# Altium footprint library DK2.PcbLib: 64 footprints (part 4 of 4)
Each footprint in its own frame and in the unit in brackets; x right, y up, seen from the top. Pads: shape width x height; smd on the part's side, far side on the other; paste and mask are expansions set on the pad; w line width, h text height; cw(c..) or ccw(c..) is an arc to the next point about the centre after c.
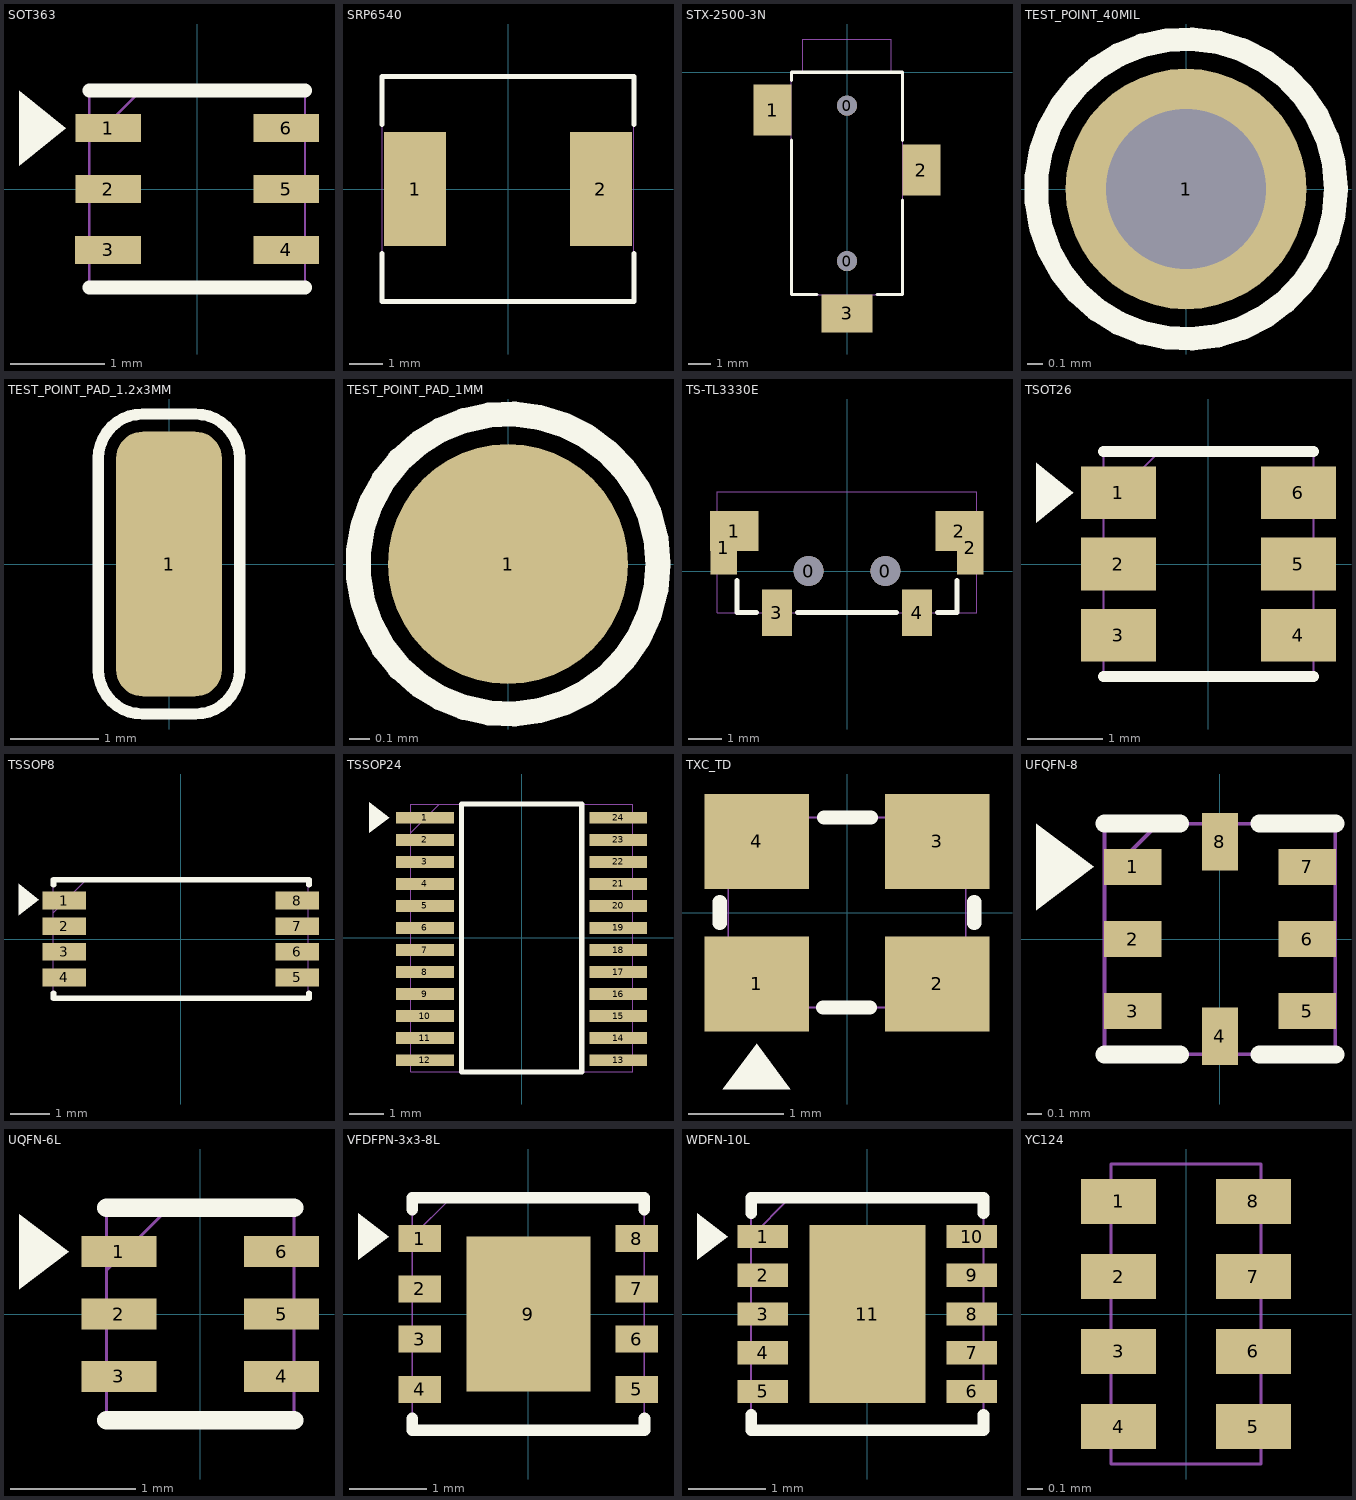
[diagram p3: the footprints below, top view; thin cyan lines are the x and y axes]

## SOT363 [mm]
pads (6):
  rect 0.7x0.3 smd mask+0.051: 1(-0.95,0.65) 2(-0.95,0) 3(-0.95,-0.65) 4(0.95,-0.65) 5(0.95,0) 6(0.95,0.65)
Top Overlay:
  region: -1.4,0.65 -1.9,0.25 -1.9,1.05
  lines w0.15: -1.15,-1.05 1.15,-1.05 ; -1.15,1.05 1.15,1.05
Mechanical 1:
  lines w0.025: -1.15,0.5 -0.6,1.05 ; -1.15,-1.05 -1.15,1.05 1.15,1.05 1.15,-1.05 -1.15,-1.05
3D body: height 1, standoff 0, extent -1.15,-1.05 1.15,1.05

## SRP6540 [mil]
pads (2):
  rect 73x134 smd mask+4: 1(-109,0) 2(109,0)
Top Overlay:
  lines w5.91: -147.64,-75.79 -147.64,-131.89 147.64,-131.89 147.64,-75.79 ; -147.64,75.79 -147.64,131.89 147.64,131.89 147.64,75.79
Mechanical 1:
  lines w1: -147.64,-131.89 147.64,-131.89 147.64,131.89 -147.64,131.89 -147.64,-131.89
3D body: height 157, standoff 0, extent -147.63,-132.38 147.64,132.39

## STX-2500-3N [mm]
pads (5):
  round 0.9 hole 0.9 unplated paste+0 mask+0.051: 0(0,-8.5) 0(0,-1.5)
  rect 1.7x2.3 smd paste+0 mask+0.051: 1(-3.35,-1.7) 2(3.35,-4.4)
  rect 2.3x1.7 smd paste+0 mask+0.051: 3(0,-10.85)
Top Overlay:
  lines w0.15: -2.5,-3.05 -2.5,-10 -1.35,-10 ; -2.5,-0.35 -2.5,0 2.5,0 2.5,-3.05 ; 1.35,-10 2.5,-10 2.5,-5.75
Mechanical 1:
  lines w0.05: -2.5,-10 2.5,-10 2.5,0 -2.5,0 -2.5,-10 ; -2,0 -2,1.5 2,1.5 2,0 -2,0
3D body: height 4, standoff 0, extent -2.5,-10 2.5,0
3D body: height 4, standoff 0, extent -1.992,0 1.992,1.5

## TEST_POINT_40MIL [mil]
pads (1):
  round 60 hole 40 mask+2.5: 1(0,0)
Top Overlay:
  circle w5.91: c0,0 r37.4

## TEST_POINT_PAD_1.2x3MM [mm]
pads (1):
  rrect50% 1.2x3 smd paste-1 mask+0.051: 1(0,0)
Top Overlay:
  lines w0.13: -0.8,-1.2 ccw(c-0.3,-1.2) -0.3,-1.7 0.3,-1.7 ccw(c0.3,-1.2) 0.8,-1.2 0.8,1.2 ccw(c0.3,1.2) 0.3,1.7 -0.3,1.7 ccw(c-0.3,1.2) -0.8,1.2 -0.8,-1.2

## TEST_POINT_PAD_1MM [mm]
pads (1):
  round 1.2 smd paste-1 mask+0.051: 1(0,0)
Top Overlay:
  circle w0.125: c0,0 r0.75

## TS-TL3330E [mm]
pads (8):
  round 0.9 hole 0.9 unplated mask+0.051: 0(-1.15,0) 0(1.15,0)
  rect 0.8x1.6 smd mask+0.051: 1(-3.7,0.7) 2(3.7,0.7)
  rect 1.45x1.2 smd mask+0.051: 1(-3.38,1.2) 2(3.375,1.2)
  rect 0.9x1.4 smd mask+0.051: 3(-2.1,-1.25) 4(2.1,-1.25)
Top Overlay:
  lines w0.15: -3.3,-0.28 -3.3,-1.25 -2.72,-1.25 ; -1.48,-1.25 1.49,-1.25 ; 2.71,-1.25 3.3,-1.25 3.3,-0.28
Mechanical 1:
  lines w0.02: -3.9,-1.25 -3.9,2.37 3.9,2.37 3.9,-1.25 -3.9,-1.25
3D body: height 3.47, standoff -0.03, extent -3.9,-1.25 3.9,2.372

## TSOT26 [mm]
pads (6):
  rect 1x0.7 smd mask+0.051: 1(-1.2,0.95) 2(-1.2,0) 3(-1.2,-0.95) 4(1.2,-0.95) 5(1.2,0) 6(1.2,0.95)
Top Overlay:
  region: -1.8,0.95 -2.3,0.55 -2.3,1.35
  lines w0.15: -1.4,-1.5 1.4,-1.5 ; -1.4,1.5 1.4,1.5
Mechanical 1:
  lines w0.02: -1.4,0.75 -0.7,1.45
  lines w0.025: -1.4,-1.45 1.4,-1.45 1.4,1.45 -1.4,1.45 -1.4,-1.45
3D body: height 1.45, standoff 0, extent -1.4,-1.45 1.4,1.45

## TSSOP8 [mm]
pads (8):
  rect 1.1x0.45 smd mask+0.064: 1(-2.95,0.975) 2(-2.95,0.325) 3(-2.95,-0.325) 4(-2.95,-0.975) 5(2.95,-0.975) 6(2.95,-0.325) 7(2.95,0.325) 8(2.95,0.975)
Top Overlay:
  region: -3.6,1 -4.1,0.6 -4.1,1.4
  lines w0.15: -3.225,-1.375 -3.225,-1.5 3.25,-1.5 3.25,-1.375 ; -3.225,1.375 -3.225,1.5 3.25,1.5 3.25,1.375
Mechanical 1:
  lines w0.025: -3.229,0.661 -2.39,1.5 ; -3.23,-1.5 -3.23,1.5 3.23,1.5 3.23,-1.5 -3.23,-1.5
3D body: height 1.2, standoff 0, extent -3.228,-1.5 3.228,1.5

## TSSOP24 [mm]
pads (24):
  rect 1.7x0.35 smd paste-0.025 mask+0.076: 1(-2.85,3.545) 2(-2.85,2.895) 3(-2.85,2.245) 4(-2.85,1.595) 5(-2.85,0.945) 6(-2.85,0.295) 7(-2.85,-0.355) 8(-2.85,-1.005) 9(-2.85,-1.655) 10(-2.85,-2.305) 11(-2.85,-2.955) 12(-2.85,-3.605) 13(2.85,-3.605) 14(2.85,-2.955) 15(2.85,-2.305) 16(2.85,-1.655) 17(2.85,-1.005) 18(2.85,-0.355) 19(2.85,0.295) 20(2.85,0.945) 21(2.85,1.595) 22(2.85,2.245) 23(2.85,2.895) 24(2.85,3.545)
Top Overlay:
  region: -3.9,3.55 -4.5,4 -4.5,3.1
  lines w0.15: -1.775,-3.95 1.775,-3.95 1.775,3.95 -1.775,3.95 -1.775,-3.95
Mechanical 1:
  lines w0.025: -3.275,3.1 -2.425,3.95 ; -3.275,-3.95 3.275,-3.95 3.275,3.95 -3.275,3.95 -3.275,-3.95
3D body: height 1.2, standoff 0, extent -3.275,-3.95 3.275,3.95

## TXC_TD [mm]
pads (4):
  rect 1.1x1 smd mask+0.051: 1(-0.95,-0.75) 2(0.95,-0.75) 3(0.95,0.75) 4(-0.95,0.75)
Top Overlay:
  region: -0.952,-1.382 -0.596,-1.857 -1.308,-1.857
  lines w0.15: -1.34,-0.11 -1.34,0.11 ; -0.25,-1 0.24,-1 ; -0.24,1 0.25,1 ; 1.34,-0.11 1.34,0.11
Mechanical 1:
  lines w0.02: -1.25,-1 1.25,-1 1.25,1 -1.25,1 -1.25,-1
3D body: height 0.75, standoff 0, extent -1.25,-1 1.25,1

## UFQFN-8 [mm]
pads (8):
  rect 0.4x0.25 smd mask+0.05: 1(-0.605,0.5) 2(-0.605,0) 3(-0.605,-0.5) 5(0.605,-0.5) 6(0.605,0) 7(0.605,0.5)
  rect 0.25x0.4 smd mask+0.05: 4(0,-0.675) 8(0,0.675)
Top Overlay:
  region: -0.875,0.5 -1.275,0.2 -1.275,0.8
  lines w0.125: -0.8,-0.8 -0.275,-0.8 ; -0.8,0.8 -0.275,0.8 ; 0.275,-0.8 0.8,-0.8 ; 0.275,0.8 0.8,0.8
Mechanical 1:
  lines w0.025: -0.8,0.425 -0.425,0.8 ; -0.8,-0.8 0.8,-0.8 0.8,0.8 -0.8,0.8 -0.8,-0.8
3D body: height 0.55, standoff 0, extent -0.8,-0.8 0.8,0.8

## UQFN-6L [mm]
pads (6):
  rect 0.6x0.25 smd paste-0.3 mask+0.051: 1(-0.65,0.5) 2(-0.65,0) 3(-0.65,-0.5) 4(0.65,-0.5) 5(0.65,0) 6(0.65,0.5)
Top Overlay:
  region: -1.05,0.5 -1.45,0.2 -1.45,0.8
  lines w0.15: -0.75,-0.85 0.75,-0.85 ; -0.75,0.85 0.75,0.85
Top Paste:
  rectangle: 0.365,0.382 0.935,0.618
  rectangle: 0.365,-0.118 0.935,0.118
  rectangle: 0.365,-0.618 0.935,-0.382
  rectangle: -0.935,-0.618 -0.365,-0.382
  rectangle: -0.935,-0.118 -0.365,0.118
  rectangle: -0.935,0.382 -0.365,0.618
Mechanical 1:
  lines w0.025: -0.75,0.35 -0.25,0.85 ; -0.75,-0.85 -0.75,0.85 0.75,0.85 0.75,-0.85 -0.75,-0.85
3D body: height 0.5, standoff 0, extent -0.75,-0.85 0.75,0.85

## VFDFPN-3x3-8L [mm]
pads (9):
  rect 0.55x0.35 smd mask+0.064: 1(-1.4,0.975) 2(-1.4,0.325) 3(-1.4,-0.325) 4(-1.4,-0.975) 5(1.4,-0.975) 6(1.4,-0.325) 7(1.4,0.325) 8(1.4,0.975)
  rect 1.6x2 smd paste-0.2 mask+0.064: 9(0,0)
Top Overlay:
  region: -1.8,1 -2.2,0.7 -2.2,1.3
  lines w0.15: -1.5,-1.35 -1.5,-1.5 1.5,-1.5 1.5,-1.35 ; -1.5,1.35 -1.5,1.5 1.5,1.5 1.5,1.35
Mechanical 1:
  lines w0.02: -1.5,1 -1,1.5 ; -1.5,-1.5 -1.5,1.5 1.5,1.5 1.5,-1.5 -1.5,-1.5
3D body: height 1, standoff 0, extent -1.5,-1.5 1.5,1.5

## WDFN-10L [mm]
pads (11):
  rect 0.65x0.3 smd mask+0.05: 1(-1.35,1) 2(-1.35,0.5) 3(-1.35,0) 4(-1.35,-0.5) 5(-1.35,-1) 6(1.35,-1) 7(1.35,-0.5) 8(1.35,0) 9(1.35,0.5) 10(1.35,1)
  rect 1.5x2.3 smd paste-0.15 mask+0.05: 11(0,0)
Top Overlay:
  region: -1.8,1 -2.2,0.7 -2.2,1.3
  lines w0.15: -1.5,-1.3 -1.5,-1.5 1.5,-1.5 1.5,-1.3 ; -1.5,1.3 -1.5,1.5 1.5,1.5 1.5,1.3
Mechanical 1:
  lines w0.025: -1.5,1 -1,1.5 ; -1.5,-1.5 1.5,-1.5 1.5,1.5 -1.5,1.5 -1.5,-1.5
3D body: height 0.8, standoff 0, extent -1.5,-1.5 1.5,1.5

## YC124 [mm]
pads (8):
  rect 0.5x0.3 smd mask+0.051: 1(-0.45,0.75) 2(-0.45,0.25) 3(-0.45,-0.25) 4(-0.45,-0.75) 5(0.45,-0.75) 6(0.45,-0.25) 7(0.45,0.25) 8(0.45,0.75)
Mechanical 1:
  lines w0.02: -0.5,-1 0.5,-1 0.5,1 -0.5,1 -0.5,-1
3D body: height 0.45, standoff 0, extent -0.4,-1 0.4,1
3D body: height 0.35, standoff 0, extent -0.5,-1 -0.4,1
3D body: height 0.35, standoff 0, extent 0.4,-1 0.5,1